# Altium footprint library PCB - LEADED - SOIC127P1030X265-20N.PCBLIB: 1 footprints
Each footprint in its own frame and in the unit in brackets; x right, y up, seen from the top. Pads: shape width x height; smd on the part's side, far side on the other; paste and mask are expansions set on the pad; w line width, h text height; cw(c..) or ccw(c..) is an arc to the next point about the centre after c.
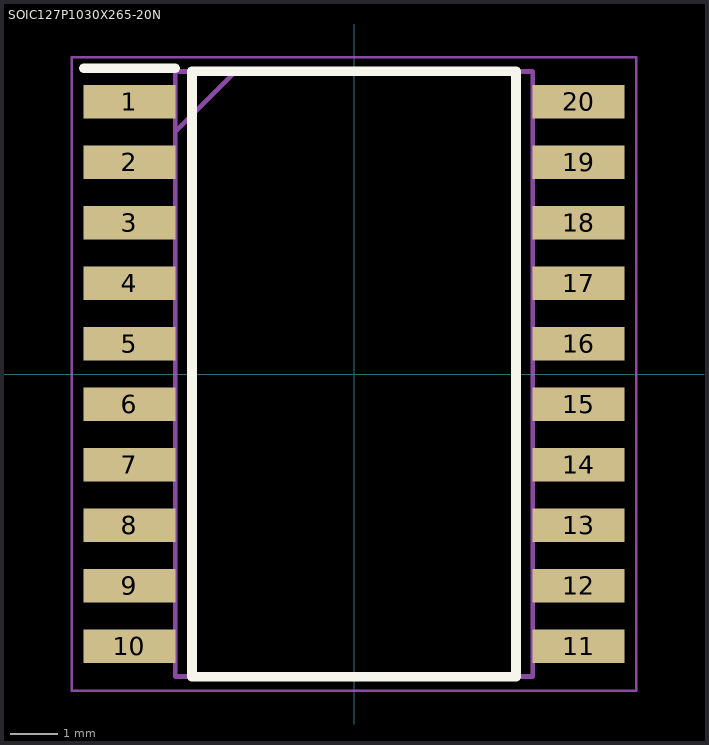
[diagram p0: the footprint, top view; thin cyan lines are the x and y axes]

## SOIC127P1030X265-20N [mm]
pads (20):
  rect 1.925x0.7 smd: 1(-4.712,5.715) 2(-4.712,4.445) 3(-4.712,3.175) 4(-4.712,1.905) 5(-4.712,0.635) 6(-4.712,-0.635) 7(-4.712,-1.905) 8(-4.712,-3.175) 9(-4.712,-4.445) 10(-4.712,-5.715) 11(4.712,-5.715) 12(4.712,-4.445) 13(4.712,-3.175) 14(4.712,-1.905) 15(4.712,-0.635) 16(4.712,0.635) 17(4.712,1.905) 18(4.712,3.175) 19(4.712,4.445) 20(4.712,5.715)
Top Overlay:
  lines w0.2: -5.675,6.415 -3.75,6.415 ; -3.4,-6.35 3.4,-6.35 3.4,6.35 -3.4,6.35 -3.4,-6.35
Mechanical 13:
  lines w0.1: -3.75,5.08 -2.48,6.35 ; -3.75,-6.35 3.75,-6.35 3.75,6.35 -3.75,6.35 -3.75,-6.35
Mechanical 15:
  lines w0.05: -5.925,-6.65 5.925,-6.65 5.925,6.65 -5.925,6.65 -5.925,-6.65
3D body "ITS711L1.stp": height 2.65, standoff 0, extent -5.15,-6.35 5.15,6.35